# EAGLE library part MY_USR_322 (library MY_USR_322)
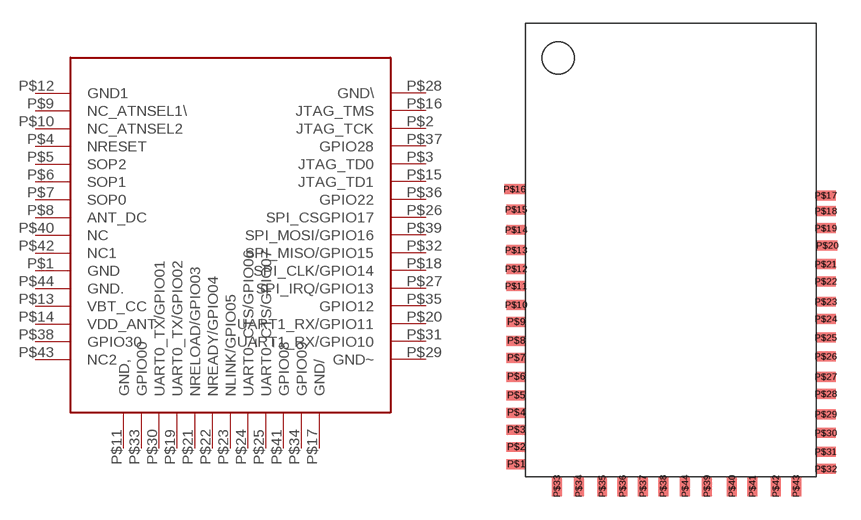
[diagram p0: symbol with the pads of MY_USR_322; footprint MY_USR_322]

Designator prefix -

## MY_USR_322  [MY_USR_322]
P$1  GND
P$2  JTAG_TCK
P$3  JTAG_TD0
P$4  NRESET
P$5  SOP2
P$6  SOP1
P$7  SOP0
P$8  ANT_DC
P$9  NC_ATNSEL1\
P$10  NC_ATNSEL2
P$11  GND,
P$12  GND1
P$13  VBT_CC
P$14  VDD_ANT
P$15  JTAG_TD1
P$16  JTAG_TMS
P$17  GND/
P$18  SPI_CLK/GPIO14
P$19  UART0_TX/GPIO02
P$20  UART1_RX/GPIO11
P$21  NRELOAD/GPIO03
P$22  NREADY/GPIO04
P$23  NLINK/GPIO05
P$24  UART0_CTS/GPIO06
P$25  UART0_CTS/GPIO07
P$26  SPI_CSGPIO17
P$27  SPI_IRQ/GPIO13
P$28  GND\
P$29  GND~
P$30  UART0_TX/GPIO01
P$31  UART1_RX/GPIO10
P$32  SPI_MISO/GPIO15
P$33  GPIO00
P$34  GPIO09
P$35  GPIO12
P$36  GPIO22
P$37  GPIO28
P$38  GPIO30
P$39  SPI_MOSI/GPIO16
P$40  NC
P$41  GPIO08
P$42  NC1
P$43  NC2
P$44  GND.

## Footprint MY_USR_322 (pad centres in mm)
MY_USR_322 designed by Prem
smd 1.27 x 0.635: P$1 -9.9,-13.7; P$2 -9.9,-12.6; P$3 -9.9,-11.5; P$4 -9.9,-10.4; P$5 -9.9,-9.3; P$6 -9.9,-8.1; P$7 -9.9,-6.9; P$8 -9.9,-5.8; P$9 -9.9,-4.6; P$10 -9.9,-3.5; P$11 -9.9,-2.3; P$12 -9.9,-1.2; P$13 -9.9,0; P$14 -9.9,1.3; P$15 -9.9,2.6; P$16 -10,3.9; P$17 9.9,3.5; P$18 9.9,2.5; P$19 9.9,1.4; P$20 10,0.3; P$21 9.9,-0.9; P$22 9.9,-2; P$23 9.9,-3.3; P$24 9.9,-4.4; P$25 9.9,-5.6; P$26 9.9,-6.8; P$27 9.9,-8.1; P$28 9.9,-9.2; P$29 9.9,-10.5; P$30 9.9,-11.7; P$31 9.9,-12.9; P$32 9.9,-14
smd 0.635 x 1.27: P$33 -7.3,-15.1; P$34 -5.9,-15.1; P$35 -4.4,-15.1; P$36 -3.1,-15.1; P$37 -1.8,-15.1; P$38 -0.5,-15.1; P$39 2.3,-15.1; P$40 3.9,-15.1; P$41 5.2,-15.1; P$42 6.7,-15.1; P$43 8,-15.1; P$44 0.9,-15.1